# Altium integrated library AD Power Mgt Voltage Reference.IntLib: 225 symbols (part 3 of 5)
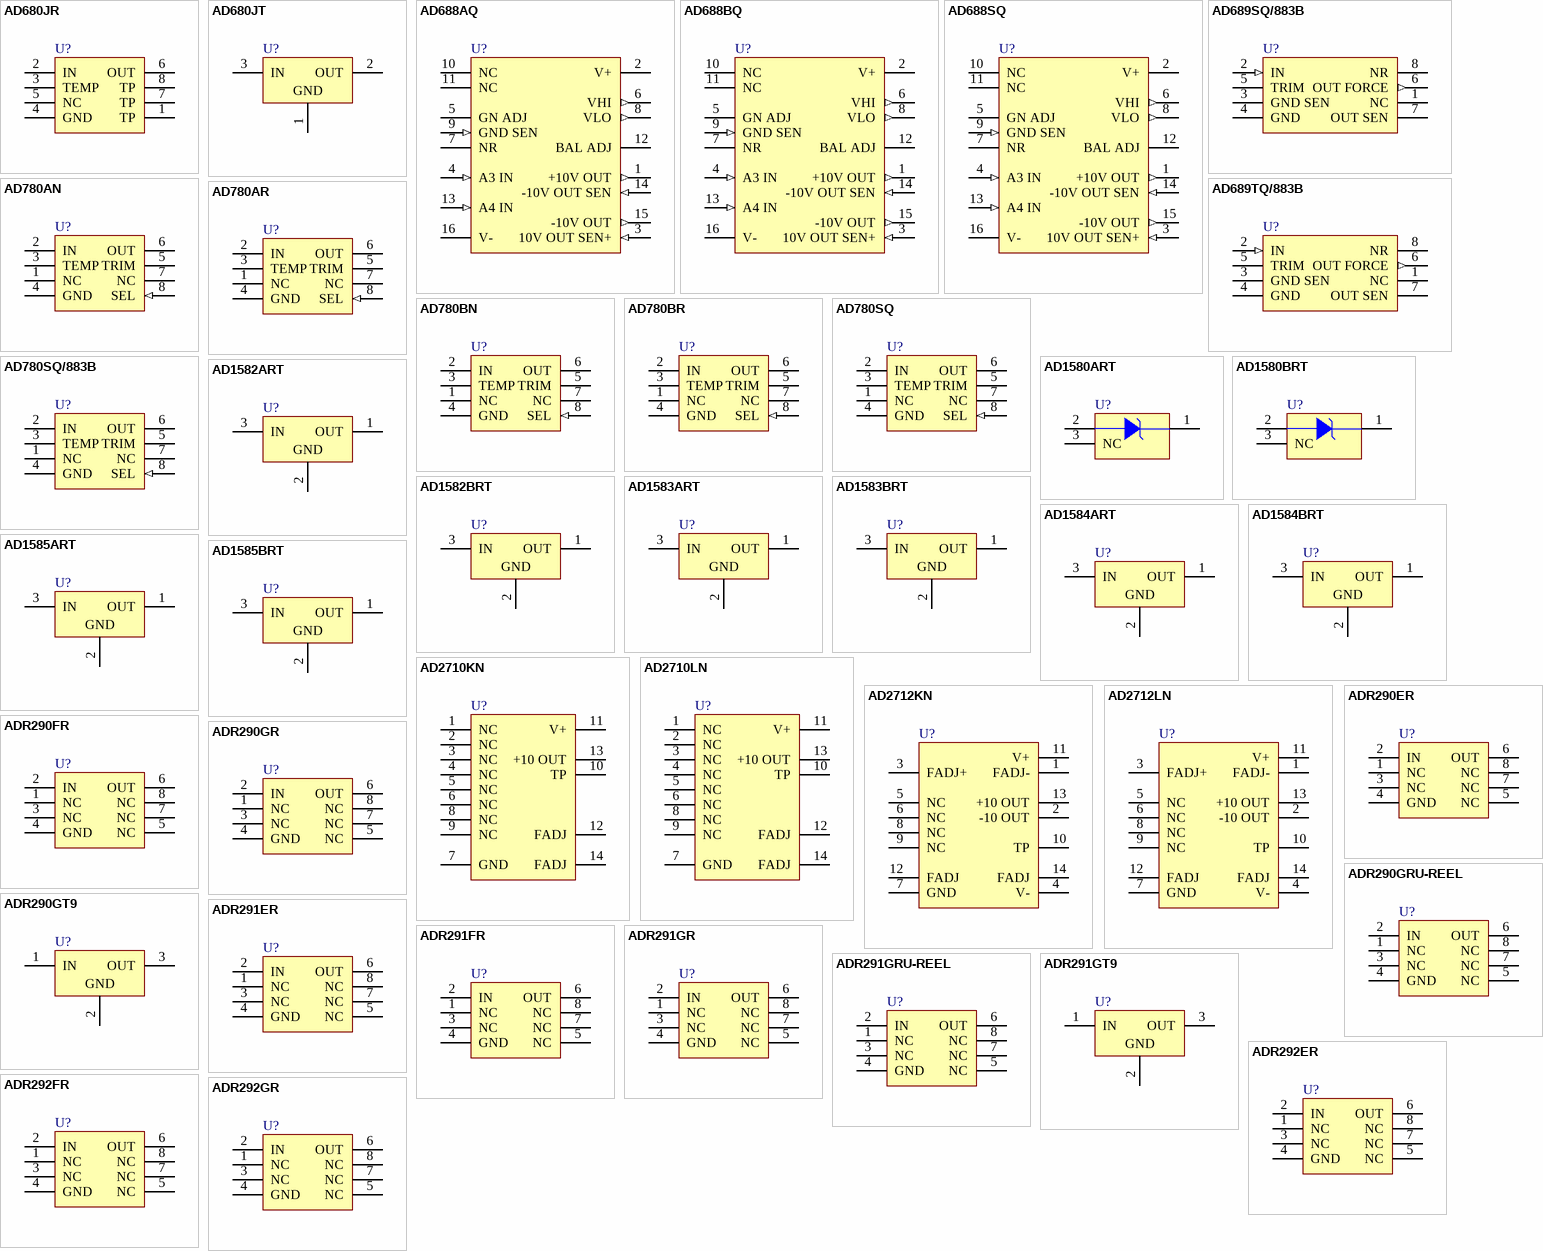
[diagram p7: symbols AD680JR to ADR292GR]

## ADR290FR
designator U?
Low-Noise Micropower Precision Voltage Reference; Note: Pins 1, 3, 5, 7 and 8 are not connected; Published: 8-Jun-2000; LatestRevisionDate: 13-Apr-2006; LatestRevisionNote: IPC-7351 Footprint Added.; DatasheetVersion: REV. 0 1997; PackageVersion: 2005; PackageReference: R-8; Publisher: Altium Limited; PackageDescription: 8-Pin Narrow Body Small Outline Integrated Circuit 1.27 mm Pitch; Code_JEDEC: MS-012-AA; Code_IPC: SOIC127P600-8; ComponentLink1Description: Manufacturer Link; ComponentLink1URL: http://www.analog.com/; ComponentLink2Description: Datasheet; ComponentLink2URL: http://www.analog.com/UploadedFiles/Obsolete_Data_Sheets/687927814ADR290.pdf
footprint R-8_N (SOIC, 8-Leads, Body 4.9x3.9mm, Pitch 1.27mm, IPC Medium Density)
footprint R-8_L (SOIC, 8-Leads, Body 4.9x3.9mm, Pitch 1.27mm, IPC High Density)
footprint R-8_M (SOIC, 8-Leads, Body 4.9x3.9mm, Pitch 1.27mm, IPC Low Density)
3D model SO-8 (8-Pin Narrow Body Small Outline Integrated Circuit 1.27 mm Pitch)
pins: 1 NC, 2 IN (power), 3 NC, 4 GND (power), 5 NC, 6 OUT (power), 7 NC, 8 NC

## ADR290GR
designator U?
Low-Noise Micropower Precision Voltage Reference; Note: Pins 1, 3, 5, 7 and 8 are not connected; Published: 8-Jun-2000; LatestRevisionDate: 13-Apr-2006; LatestRevisionNote: IPC-7351 Footprint Added.; DatasheetVersion: REV. 0 1997; PackageVersion: 2005; PackageReference: R-8; Publisher: Altium Limited; PackageDescription: 8-Pin Narrow Body Small Outline Integrated Circuit 1.27 mm Pitch; Code_JEDEC: MS-012-AA; Code_IPC: SOIC127P600-8; ComponentLink1Description: Manufacturer Link; ComponentLink1URL: http://www.analog.com/; ComponentLink2Description: Datasheet; ComponentLink2URL: http://www.analog.com/UploadedFiles/Obsolete_Data_Sheets/687927814ADR290.pdf
footprint R-8_N (SOIC, 8-Leads, Body 4.9x3.9mm, Pitch 1.27mm, IPC Medium Density)
footprint R-8_L (SOIC, 8-Leads, Body 4.9x3.9mm, Pitch 1.27mm, IPC High Density)
footprint R-8_M (SOIC, 8-Leads, Body 4.9x3.9mm, Pitch 1.27mm, IPC Low Density)
3D model SO-8 (8-Pin Narrow Body Small Outline Integrated Circuit 1.27 mm Pitch)
pins: 1 NC, 2 IN (power), 3 NC, 4 GND (power), 5 NC, 6 OUT (power), 7 NC, 8 NC

## ADR290GRU-REEL
designator U?
Low-Noise Micropower Precision Voltage Reference; Note: Pins 1, 3, 5, 7 and 8 are not connected; Published: 8-Jun-2000; LatestRevisionDate: 29-May-2009; LatestRevisionNote: IPC-7351 Footprint Added.; DatasheetVersion: REV. 0 1997; PackageVersion: 1997; PackageReference: RU-8; Publisher: Altium Limited; PackageDescription: 8-Pin Thin Small Outline Package 0.65 mm Pitch; ComponentLink1Description: Manufacturer Link; ComponentLink1URL: http://www.analog.com/; ComponentLink2Description: Datasheet; ComponentLink2URL: http://www.analog.com/UploadedFiles/Obsolete_Data_Sheets/687927814ADR290.pdf
footprint RU-8_N (TSOP, 8-Leads, Body 3x4.4mm, Pitch 0.65mm, IPC Medium Density)
footprint RU-8_L (TSOP, 8-Leads, Body 3x4.4mm, Pitch 0.65mm, IPC High Density)
footprint RU-8_M (TSOP, 8-Leads, Body 3x4.4mm, Pitch 0.65mm, IPC Low Density)
3D model RU-8 (8-Pin Thin Small Outline Package 0.65 mm Pitch)
pins: 1 NC, 2 IN (power), 3 NC, 4 GND (power), 5 NC, 6 OUT (power), 7 NC, 8 NC

## ADR290GT9
designator U?
Low-Noise Micropower Precision Voltage Reference; Published: 8-Jun-2000; LatestRevisionDate: 17-Jul-2002; LatestRevisionNote: Re-released for DXP Platform.; DatasheetVersion: REV. 0 1997; PackageVersion: revC; PackageReference: TO-92; Publisher: Altium Limited; PackageDescription: TO, Flat Index; 3 In-Line, Axial Leads; Body Dia. 5.1mm; Leads 0.48 x 0.48 mm (max); ComponentLink1Description: Manufacturer Link; ComponentLink1URL: http://www.analog.com/; ComponentLink2Description: Datasheet; ComponentLink2URL: http://www.analog.com/UploadedFiles/Obsolete_Data_Sheets/687927814ADR290.pdf
footprint TO-92 (TO, Flat Index; 3 In-Line, Axial Leads; Body Dia. 5.1mm; Leads 0.48 x 0.48 mm (max))
pins: 1 IN (power), 2 GND (power), 3 OUT (power)

## ADR291ER
designator U?
Low-Noise Micropower 2.5V Precision Voltage Reference; Note: Pins 1, 3, 5, 7 and 8 are not connected; Published: 8-Jun-2000; LatestRevisionDate: 13-Apr-2006; LatestRevisionNote: IPC-7351 Footprint Added.; DatasheetVersion: REV. 0 1997; PackageVersion: 2005; PackageReference: R-8; Publisher: Altium Limited; PackageDescription: 8-Pin Narrow Body Small Outline Integrated Circuit 1.27 mm Pitch; Code_JEDEC: MS-012-AA; Code_IPC: SOIC127P600-8; ComponentLink1Description: Manufacturer Link; ComponentLink1URL: http://www.analog.com/; ComponentLink2Description: Datasheet; ComponentLink2URL: http://www.analog.com/UploadedFiles/Obsolete_Data_Sheets/687927814ADR290.pdf
footprint R-8_N (SOIC, 8-Leads, Body 4.9x3.9mm, Pitch 1.27mm, IPC Medium Density)
footprint R-8_L (SOIC, 8-Leads, Body 4.9x3.9mm, Pitch 1.27mm, IPC High Density)
footprint R-8_M (SOIC, 8-Leads, Body 4.9x3.9mm, Pitch 1.27mm, IPC Low Density)
3D model SO-8 (8-Pin Narrow Body Small Outline Integrated Circuit 1.27 mm Pitch)
pins: 1 NC, 2 IN (power), 3 NC, 4 GND (power), 5 NC, 6 OUT (power), 7 NC, 8 NC

## ADR291FR
designator U?
Low-Noise Micropower 2.5V Precision Voltage Reference; Note: Pins 1, 3, 5, 7 and 8 are not connected; Published: 8-Jun-2000; LatestRevisionDate: 13-Apr-2006; LatestRevisionNote: IPC-7351 Footprint Added.; DatasheetVersion: REV. 0 1997; PackageVersion: 2005; PackageReference: R-8; Publisher: Altium Limited; PackageDescription: 8-Pin Narrow Body Small Outline Integrated Circuit 1.27 mm Pitch; Code_JEDEC: MS-012-AA; Code_IPC: SOIC127P600-8; ComponentLink1Description: Manufacturer Link; ComponentLink1URL: http://www.analog.com/; ComponentLink2Description: Datasheet; ComponentLink2URL: http://www.analog.com/UploadedFiles/Obsolete_Data_Sheets/687927814ADR290.pdf
footprint R-8_N (SOIC, 8-Leads, Body 4.9x3.9mm, Pitch 1.27mm, IPC Medium Density)
footprint R-8_L (SOIC, 8-Leads, Body 4.9x3.9mm, Pitch 1.27mm, IPC High Density)
footprint R-8_M (SOIC, 8-Leads, Body 4.9x3.9mm, Pitch 1.27mm, IPC Low Density)
3D model SO-8 (8-Pin Narrow Body Small Outline Integrated Circuit 1.27 mm Pitch)
pins: 1 NC, 2 IN (power), 3 NC, 4 GND (power), 5 NC, 6 OUT (power), 7 NC, 8 NC

## ADR291GR
designator U?
Low-Noise Micropower 2.5V Precision Voltage Reference; Note: Pins 1, 3, 5, 7 and 8 are not connected; Published: 8-Jun-2000; LatestRevisionDate: 13-Apr-2006; LatestRevisionNote: IPC-7351 Footprint Added.; DatasheetVersion: REV. 0 1997; PackageVersion: 2005; PackageReference: R-8; Publisher: Altium Limited; PackageDescription: 8-Pin Narrow Body Small Outline Integrated Circuit 1.27 mm Pitch; Code_JEDEC: MS-012-AA; Code_IPC: SOIC127P600-8; ComponentLink1Description: Manufacturer Link; ComponentLink1URL: http://www.analog.com/; ComponentLink2Description: Datasheet; ComponentLink2URL: http://www.analog.com/UploadedFiles/Obsolete_Data_Sheets/687927814ADR290.pdf
footprint R-8_N (SOIC, 8-Leads, Body 4.9x3.9mm, Pitch 1.27mm, IPC Medium Density)
footprint R-8_L (SOIC, 8-Leads, Body 4.9x3.9mm, Pitch 1.27mm, IPC High Density)
footprint R-8_M (SOIC, 8-Leads, Body 4.9x3.9mm, Pitch 1.27mm, IPC Low Density)
3D model SO-8 (8-Pin Narrow Body Small Outline Integrated Circuit 1.27 mm Pitch)
pins: 1 NC, 2 IN (power), 3 NC, 4 GND (power), 5 NC, 6 OUT (power), 7 NC, 8 NC

## ADR291GRU-REEL
designator U?
Low-Noise Micropower 2.5V Precision Voltage Reference; Note: Pins 1, 3, 5, 7 and 8 are not connected; Published: 8-Jun-2000; LatestRevisionDate: 29-May-2009; LatestRevisionNote: IPC-7351 Footprint Added.; DatasheetVersion: REV. 0 1997; PackageVersion: 1997; PackageReference: RU-8; Publisher: Altium Limited; PackageDescription: 8-Pin Thin Small Outline Package 0.65 mm Pitch; ComponentLink1Description: Manufacturer Link; ComponentLink1URL: http://www.analog.com/; ComponentLink2Description: Datasheet; ComponentLink2URL: http://www.analog.com/UploadedFiles/Obsolete_Data_Sheets/687927814ADR290.pdf
footprint RU-8_N (TSOP, 8-Leads, Body 3x4.4mm, Pitch 0.65mm, IPC Medium Density)
footprint RU-8_L (TSOP, 8-Leads, Body 3x4.4mm, Pitch 0.65mm, IPC High Density)
footprint RU-8_M (TSOP, 8-Leads, Body 3x4.4mm, Pitch 0.65mm, IPC Low Density)
3D model RU-8 (8-Pin Thin Small Outline Package 0.65 mm Pitch)
pins: 1 NC, 2 IN (power), 3 NC, 4 GND (power), 5 NC, 6 OUT (power), 7 NC, 8 NC

## ADR291GT9
designator U?
Low-Noise Micropower 2.5V Precision Voltage Reference; Published: 8-Jun-2000; LatestRevisionDate: 17-Jul-2002; LatestRevisionNote: Re-released for DXP Platform.; DatasheetVersion: REV. 0 1997; PackageVersion: revC; PackageReference: TO-92; Publisher: Altium Limited; PackageDescription: TO, Flat Index; 3 In-Line, Axial Leads; Body Dia. 5.1mm; Leads 0.48 x 0.48 mm (max); ComponentLink1Description: Manufacturer Link; ComponentLink1URL: http://www.analog.com/; ComponentLink2Description: Datasheet; ComponentLink2URL: http://www.analog.com/UploadedFiles/Obsolete_Data_Sheets/687927814ADR290.pdf
footprint TO-92 (TO, Flat Index; 3 In-Line, Axial Leads; Body Dia. 5.1mm; Leads 0.48 x 0.48 mm (max))
pins: 1 IN (power), 2 GND (power), 3 OUT (power)

## ADR292ER
designator U?
Low-Noise Micropower 4.096V Precision Voltage Reference; Note: Pins 1, 3, 5, 7 and 8 are not connected; Published: 8-Jun-2000; LatestRevisionDate: 13-Apr-2006; LatestRevisionNote: IPC-7351 Footprint Added.; DatasheetVersion: REV. 0 1997; PackageVersion: 2005; PackageReference: R-8; Publisher: Altium Limited; PackageDescription: 8-Pin Narrow Body Small Outline Integrated Circuit 1.27 mm Pitch; Code_JEDEC: MS-012-AA; Code_IPC: SOIC127P600-8; ComponentLink1Description: Manufacturer Link; ComponentLink1URL: http://www.analog.com/; ComponentLink2Description: Datasheet; ComponentLink2URL: http://www.analog.com/UploadedFiles/Obsolete_Data_Sheets/687927814ADR290.pdf
footprint R-8_N (SOIC, 8-Leads, Body 4.9x3.9mm, Pitch 1.27mm, IPC Medium Density)
footprint R-8_L (SOIC, 8-Leads, Body 4.9x3.9mm, Pitch 1.27mm, IPC High Density)
footprint R-8_M (SOIC, 8-Leads, Body 4.9x3.9mm, Pitch 1.27mm, IPC Low Density)
3D model SO-8 (8-Pin Narrow Body Small Outline Integrated Circuit 1.27 mm Pitch)
pins: 1 NC, 2 IN (power), 3 NC, 4 GND (power), 5 NC, 6 OUT (power), 7 NC, 8 NC

## ADR292FR
designator U?
Low-Noise Micropower 4.096V Precision Voltage Reference; Note: Pins 1, 3, 5, 7 and 8 are not connected; Published: 8-Jun-2000; LatestRevisionDate: 13-Apr-2006; LatestRevisionNote: IPC-7351 Footprint Added.; DatasheetVersion: REV. 0 1997; PackageVersion: 2005; PackageReference: R-8; Publisher: Altium Limited; PackageDescription: 8-Pin Narrow Body Small Outline Integrated Circuit 1.27 mm Pitch; Code_JEDEC: MS-012-AA; Code_IPC: SOIC127P600-8; ComponentLink1Description: Manufacturer Link; ComponentLink1URL: http://www.analog.com/; ComponentLink2Description: Datasheet; ComponentLink2URL: http://www.analog.com/UploadedFiles/Obsolete_Data_Sheets/687927814ADR290.pdf
footprint R-8_N (SOIC, 8-Leads, Body 4.9x3.9mm, Pitch 1.27mm, IPC Medium Density)
footprint R-8_L (SOIC, 8-Leads, Body 4.9x3.9mm, Pitch 1.27mm, IPC High Density)
footprint R-8_M (SOIC, 8-Leads, Body 4.9x3.9mm, Pitch 1.27mm, IPC Low Density)
3D model SO-8 (8-Pin Narrow Body Small Outline Integrated Circuit 1.27 mm Pitch)
pins: 1 NC, 2 IN (power), 3 NC, 4 GND (power), 5 NC, 6 OUT (power), 7 NC, 8 NC

## ADR292GR
designator U?
Low-Noise Micropower 4.096V Precision Voltage Reference; Note: Pins 1, 3, 5, 7 and 8 are not connected; Published: 8-Jun-2000; LatestRevisionDate: 13-Apr-2006; LatestRevisionNote: IPC-7351 Footprint Added.; DatasheetVersion: REV. 0 1997; PackageVersion: 2005; PackageReference: R-8; Publisher: Altium Limited; PackageDescription: 8-Pin Narrow Body Small Outline Integrated Circuit 1.27 mm Pitch; Code_JEDEC: MS-012-AA; Code_IPC: SOIC127P600-8; ComponentLink1Description: Manufacturer Link; ComponentLink1URL: http://www.analog.com/; ComponentLink2Description: Datasheet; ComponentLink2URL: http://www.analog.com/UploadedFiles/Obsolete_Data_Sheets/687927814ADR290.pdf
footprint R-8_N (SOIC, 8-Leads, Body 4.9x3.9mm, Pitch 1.27mm, IPC Medium Density)
footprint R-8_L (SOIC, 8-Leads, Body 4.9x3.9mm, Pitch 1.27mm, IPC High Density)
footprint R-8_M (SOIC, 8-Leads, Body 4.9x3.9mm, Pitch 1.27mm, IPC Low Density)
3D model SO-8 (8-Pin Narrow Body Small Outline Integrated Circuit 1.27 mm Pitch)
pins: 1 NC, 2 IN (power), 3 NC, 4 GND (power), 5 NC, 6 OUT (power), 7 NC, 8 NC

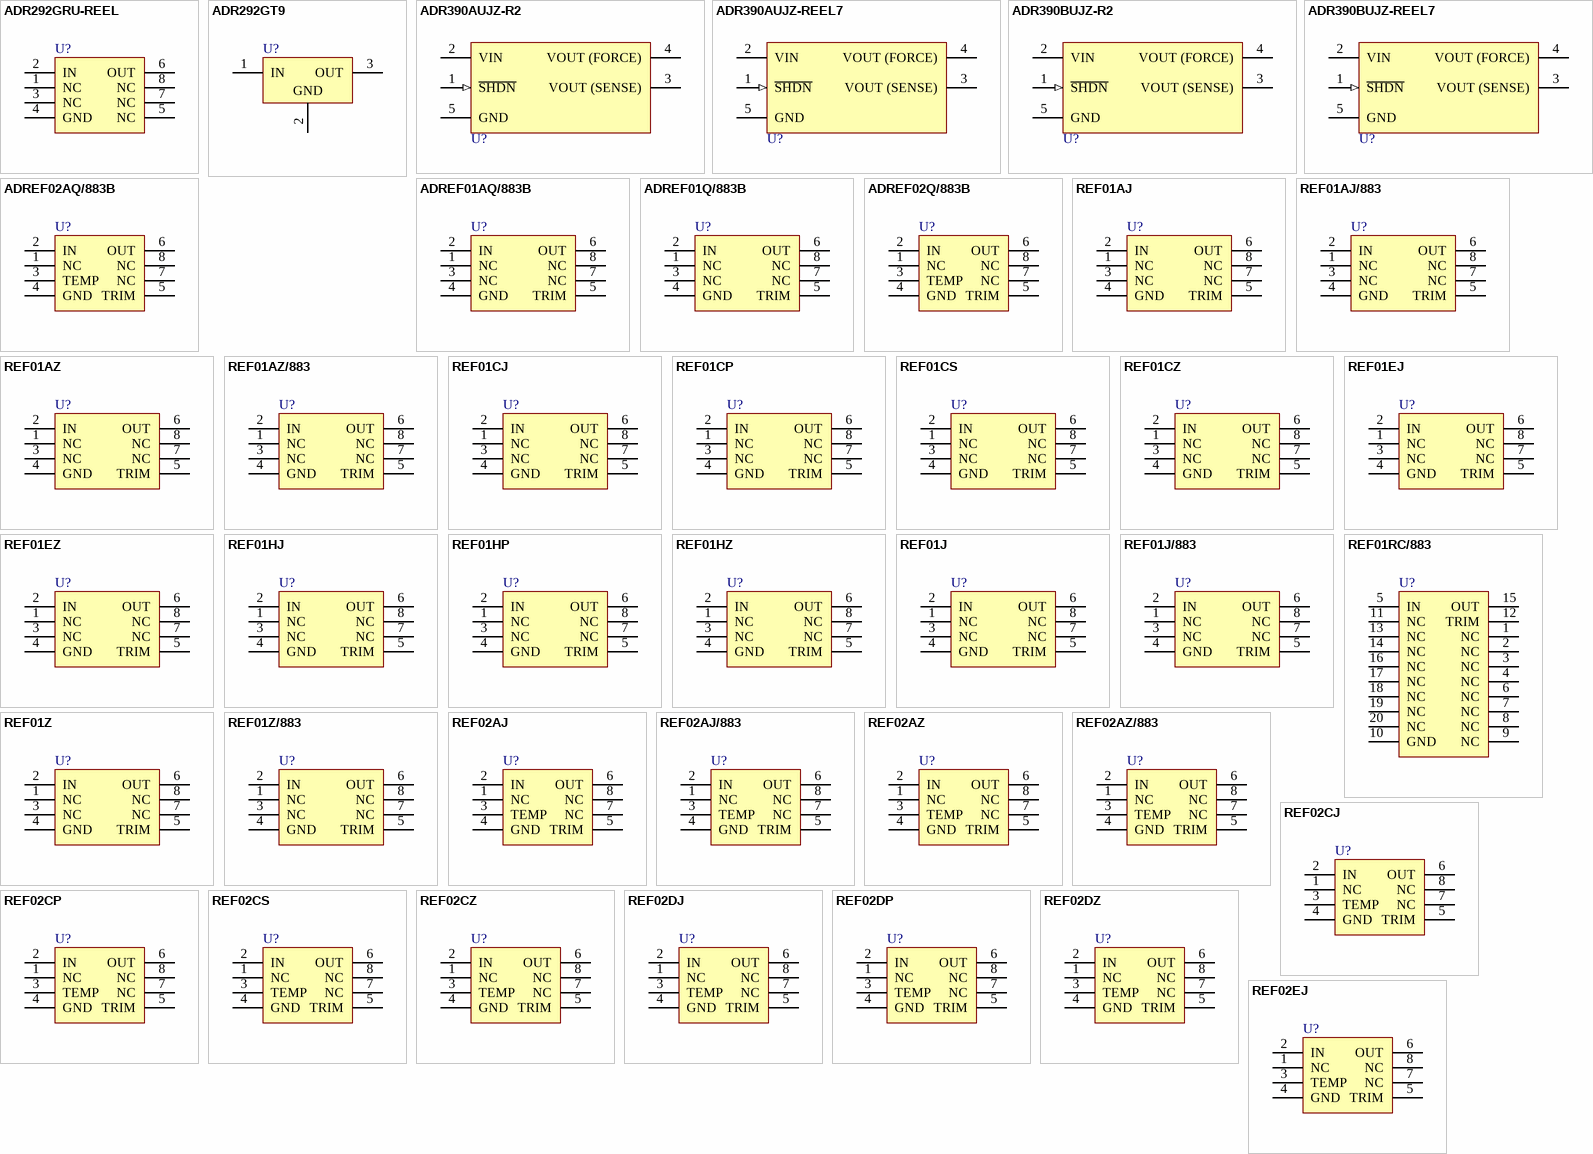
[diagram p3: symbols ADR292GRU-REEL to REF02EJ]

## ADR292GRU-REEL
designator U?
Low-Noise Micropower 4.096V Precision Voltage Reference; Note: Pins 1, 3, 5, 7 and 8 are not connected; Published: 8-Jun-2000; LatestRevisionDate: 29-May-2009; LatestRevisionNote: IPC-7351 Footprint Added.; DatasheetVersion: REV. 0 1997; PackageVersion: 1997; PackageReference: RU-8; Publisher: Altium Limited; PackageDescription: 8-Pin Thin Small Outline Package 0.65 mm Pitch; ComponentLink1Description: Manufacturer Link; ComponentLink1URL: http://www.analog.com/; ComponentLink2Description: Datasheet; ComponentLink2URL: http://www.analog.com/UploadedFiles/Obsolete_Data_Sheets/687927814ADR290.pdf
footprint RU-8_N (TSOP, 8-Leads, Body 3x4.4mm, Pitch 0.65mm, IPC Medium Density)
footprint RU-8_L (TSOP, 8-Leads, Body 3x4.4mm, Pitch 0.65mm, IPC High Density)
footprint RU-8_M (TSOP, 8-Leads, Body 3x4.4mm, Pitch 0.65mm, IPC Low Density)
3D model RU-8 (8-Pin Thin Small Outline Package 0.65 mm Pitch)
pins: 1 NC, 2 IN (power), 3 NC, 4 GND (power), 5 NC, 6 OUT (power), 7 NC, 8 NC

## ADR292GT9
designator U?
Low-Noise Micropower 4.096V Precision Voltage Reference; Published: 8-Jun-2000; LatestRevisionDate: 17-Jul-2002; LatestRevisionNote: Re-released for DXP Platform.; DatasheetVersion: REV. 0 1997; PackageVersion: revC; PackageReference: TO-92; Publisher: Altium Limited; PackageDescription: TO, Flat Index; 3 In-Line, Axial Leads; Body Dia. 5.1mm; Leads 0.48 x 0.48 mm (max); ComponentLink1Description: Manufacturer Link; ComponentLink1URL: http://www.analog.com/; ComponentLink2Description: Datasheet; ComponentLink2URL: http://www.analog.com/UploadedFiles/Obsolete_Data_Sheets/687927814ADR290.pdf
footprint TO-92 (TO, Flat Index; 3 In-Line, Axial Leads; Body Dia. 5.1mm; Leads 0.48 x 0.48 mm (max))
pins: 1 IN (power), 2 GND (power), 3 OUT (power)

## ADR390AUJZ-R2
designator U?
2.048 V Micropower, Low Noise Precision Voltage Reference with Shutdown; Published: 30-May-2008; DatasheetVersion: revG, Mar-2008; PackageVersion: 2005; PackageReference: UJ-5; Publisher: Altium Limited; PackageDescription: 5-Pin SOT-23 Package 0.95 mm Pitch, 2.8 mm Lead Span; Code_JEDEC: MO-193AB; ComponentLink1Description: Manufacturer Link; ComponentLink1URL: http://www.analog.com/; ComponentLink2Description: Datasheet; ComponentLink2URL: http://www.analog.com/UploadedFiles/Data_Sheets/ADR390_391_392_395.pdf
footprint UJ-5_N (SOT23, 5-Leads, Body 2.9x1.7mm, Pitch 0.95mm, Lead Span 2.8mm, IPC Medium Density)
footprint UJ-5_L (SOT23, 5-Leads, Body 2.9x1.7mm, Pitch 0.95mm, Lead Span 2.8mm, IPC High Density)
footprint UJ-5_M (SOT23, 5-Leads, Body 2.9x1.7mm, Pitch 0.95mm, Lead Span 2.8mm, IPC Low Density)
pins: 1 ~{SHDN} (in), 2 VIN (power), 3 VOUT (SENSE) (power), 4 VOUT (FORCE) (power), 5 GND (power)

## ADR390AUJZ-REEL7
designator U?
2.048 V Micropower, Low Noise Precision Voltage Reference with Shutdown; Published: 30-May-2008; DatasheetVersion: revG, Mar-2008; PackageVersion: 2005; PackageReference: UJ-5; Publisher: Altium Limited; PackageDescription: 5-Pin SOT-23 Package 0.95 mm Pitch, 2.8 mm Lead Span; Code_JEDEC: MO-193AB; ComponentLink1Description: Manufacturer Link; ComponentLink1URL: http://www.analog.com/; ComponentLink2Description: Datasheet; ComponentLink2URL: http://www.analog.com/UploadedFiles/Data_Sheets/ADR390_391_392_395.pdf
footprint UJ-5_N (SOT23, 5-Leads, Body 2.9x1.7mm, Pitch 0.95mm, Lead Span 2.8mm, IPC Medium Density)
footprint UJ-5_L (SOT23, 5-Leads, Body 2.9x1.7mm, Pitch 0.95mm, Lead Span 2.8mm, IPC High Density)
footprint UJ-5_M (SOT23, 5-Leads, Body 2.9x1.7mm, Pitch 0.95mm, Lead Span 2.8mm, IPC Low Density)
pins: 1 ~{SHDN} (in), 2 VIN (power), 3 VOUT (SENSE) (power), 4 VOUT (FORCE) (power), 5 GND (power)

## ADR390BUJZ-R2
designator U?
2.048 V Micropower, Low Noise Precision Voltage Reference with Shutdown; Published: 30-May-2008; DatasheetVersion: revG, Mar-2008; PackageVersion: 2005; PackageReference: UJ-5; Publisher: Altium Limited; PackageDescription: 5-Pin SOT-23 Package 0.95 mm Pitch, 2.8 mm Lead Span; Code_JEDEC: MO-193AB; ComponentLink1Description: Manufacturer Link; ComponentLink1URL: http://www.analog.com/; ComponentLink2Description: Datasheet; ComponentLink2URL: http://www.analog.com/UploadedFiles/Data_Sheets/ADR390_391_392_395.pdf
footprint UJ-5_N (SOT23, 5-Leads, Body 2.9x1.7mm, Pitch 0.95mm, Lead Span 2.8mm, IPC Medium Density)
footprint UJ-5_L (SOT23, 5-Leads, Body 2.9x1.7mm, Pitch 0.95mm, Lead Span 2.8mm, IPC High Density)
footprint UJ-5_M (SOT23, 5-Leads, Body 2.9x1.7mm, Pitch 0.95mm, Lead Span 2.8mm, IPC Low Density)
pins: 1 ~{SHDN} (in), 2 VIN (power), 3 VOUT (SENSE) (power), 4 VOUT (FORCE) (power), 5 GND (power)

## ADR390BUJZ-REEL7
designator U?
2.048 V Micropower, Low Noise Precision Voltage Reference with Shutdown; Published: 30-May-2008; DatasheetVersion: revG, Mar-2008; PackageVersion: 2005; PackageReference: UJ-5; Publisher: Altium Limited; PackageDescription: 5-Pin SOT-23 Package 0.95 mm Pitch, 2.8 mm Lead Span; Code_JEDEC: MO-193AB; ComponentLink1Description: Manufacturer Link; ComponentLink1URL: http://www.analog.com/; ComponentLink2Description: Datasheet; ComponentLink2URL: http://www.analog.com/UploadedFiles/Data_Sheets/ADR390_391_392_395.pdf
footprint UJ-5_N (SOT23, 5-Leads, Body 2.9x1.7mm, Pitch 0.95mm, Lead Span 2.8mm, IPC Medium Density)
footprint UJ-5_L (SOT23, 5-Leads, Body 2.9x1.7mm, Pitch 0.95mm, Lead Span 2.8mm, IPC High Density)
footprint UJ-5_M (SOT23, 5-Leads, Body 2.9x1.7mm, Pitch 0.95mm, Lead Span 2.8mm, IPC Low Density)
pins: 1 ~{SHDN} (in), 2 VIN (power), 3 VOUT (SENSE) (power), 4 VOUT (FORCE) (power), 5 GND (power)

## ADREF01AQ/883B
designator U?
10 Volt IC Reference; Note: Pins 1, 3, 7 and 8 are not connected; Pin 4 is connected to case; Published: 8-Jun-2000; LatestRevisionDate: 29-May-2009; LatestRevisionNote: Component Body Added.; DatasheetVersion: REV. B 1990; PackageVersion: 1998; PackageReference: Q-8; Publisher: Altium Limited; PackageDescription: DIP, 8-Pin, Row Spacing 7.62 mm, Pitch 2.54 mm; ComponentLink1Description: Manufacturer Link; ComponentLink1URL: http://www.analog.com/
footprint Q-8 (DIP, 8-Leads, Row Spacing 7.62mm, Pitch 2.54mm, Body 9.91x6.73mm)
3D model Q-8 (DIP, 8-Pin, Row Spacing 7.62 mm, Pitch 2.54 mm)
simulation model REF01A (SUBCKT)
pins: 1 NC, 2 IN (power), 3 NC, 4 GND (power), 5 TRIM, 6 OUT (power), 7 NC, 8 NC

## ADREF01Q/883B
designator U?
10 Volt IC Reference; Note: Pins 1, 3, 7 and 8 are not connected; Pin 4 is connected to case; Published: 8-Jun-2000; LatestRevisionDate: 29-May-2009; LatestRevisionNote: Component Body Added.; DatasheetVersion: REV. B 1990; PackageVersion: 1998; PackageReference: Q-8; Publisher: Altium Limited; PackageDescription: DIP, 8-Pin, Row Spacing 7.62 mm, Pitch 2.54 mm; ComponentLink1Description: Manufacturer Link; ComponentLink1URL: http://www.analog.com/
footprint Q-8 (DIP, 8-Leads, Row Spacing 7.62mm, Pitch 2.54mm, Body 9.91x6.73mm)
3D model Q-8 (DIP, 8-Pin, Row Spacing 7.62 mm, Pitch 2.54 mm)
simulation model REF01 (SUBCKT)
pins: 1 NC, 2 IN (power), 3 NC, 4 GND (power), 5 TRIM, 6 OUT (power), 7 NC, 8 NC

## ADREF02AQ/883B
designator U?
5 Volt IC Reference; Note: Pins 1, 7 and 8 are not connected; Pin 4 is connected to case; Published: 8-Jun-2000; LatestRevisionDate: 29-May-2009; LatestRevisionNote: Component Body Added.; DatasheetVersion: REV. B 1990; PackageVersion: 1998; PackageReference: Q-8; Publisher: Altium Limited; PackageDescription: DIP, 8-Pin, Row Spacing 7.62 mm, Pitch 2.54 mm; ComponentLink1Description: Manufacturer Link; ComponentLink1URL: http://www.analog.com/
footprint Q-8 (DIP, 8-Leads, Row Spacing 7.62mm, Pitch 2.54mm, Body 9.91x6.73mm)
3D model Q-8 (DIP, 8-Pin, Row Spacing 7.62 mm, Pitch 2.54 mm)
simulation model REF02A (SUBCKT)
pins: 1 NC, 2 IN (power), 3 TEMP, 4 GND (power), 5 TRIM, 6 OUT (power), 7 NC, 8 NC

## ADREF02Q/883B
designator U?
5 Volt IC Reference; Note: Pins 1, 7 and 8 are not connected; Pin 4 is connected to case; Published: 8-Jun-2000; LatestRevisionDate: 29-May-2009; LatestRevisionNote: Component Body Added.; DatasheetVersion: REV. B 1990; PackageVersion: 1998; PackageReference: Q-8; Publisher: Altium Limited; PackageDescription: DIP, 8-Pin, Row Spacing 7.62 mm, Pitch 2.54 mm; ComponentLink1Description: Manufacturer Link; ComponentLink1URL: http://www.analog.com/
footprint Q-8 (DIP, 8-Leads, Row Spacing 7.62mm, Pitch 2.54mm, Body 9.91x6.73mm)
3D model Q-8 (DIP, 8-Pin, Row Spacing 7.62 mm, Pitch 2.54 mm)
simulation model REF02 (SUBCKT)
pins: 1 NC, 2 IN (power), 3 TEMP, 4 GND (power), 5 TRIM, 6 OUT (power), 7 NC, 8 NC

## REF01AJ
designator U?
+10V Precision Voltage Reference; Note: Pins 1, 3, 7 and 8 are not connected; Pin 4 is connected to case; Published: 8-Jun-2000; LatestRevisionDate: 17-Jul-2002; LatestRevisionNote: Re-released for DXP Platform.; DatasheetVersion: REV. B 1992; PackageVersion: 1990; PackageReference: H-08A; Publisher: Altium Limited; PackageDescription: Can; 8 Leads; Pin Circle Dia. 5.08 mm; Lead Dia. 0.53 mm (max); ComponentLink1Description: Manufacturer Link; ComponentLink1URL: http://www.analog.com/en/prod/0%2C2877%2CREF01%2C00.html; ComponentLink2Description: Datasheet; ComponentLink2URL: http://www.analog.com/UploadedFiles/Data_Sheets/400769540REF01_g.pdf
footprint H-08A (Can; 8 Leads; Pin Circle Dia. 5.08 mm; Lead Dia. 0.53 mm (max))
simulation model REF01A (SUBCKT)
pins: 1 NC, 2 IN (power), 3 NC, 4 GND (power), 5 TRIM, 6 OUT (power), 7 NC, 8 NC

## REF01AJ/883
designator U?
+10V Precision Voltage Reference; Note: Pins 1, 3, 7 and 8 are not connected; Pin 4 is connected to case; Published: 8-Jun-2000; LatestRevisionDate: 17-Jul-2002; LatestRevisionNote: Re-released for DXP Platform.; DatasheetVersion: REV. B 1992; PackageVersion: 1990; PackageReference: H-08A; Publisher: Altium Limited; PackageDescription: Can; 8 Leads; Pin Circle Dia. 5.08 mm; Lead Dia. 0.53 mm (max); ComponentLink1Description: Manufacturer Link; ComponentLink1URL: http://www.analog.com/en/prod/0%2C2877%2CREF01%2C00.html; ComponentLink2Description: Datasheet; ComponentLink2URL: http://www.analog.com/UploadedFiles/Data_Sheets/400769540REF01_g.pdf
footprint H-08A (Can; 8 Leads; Pin Circle Dia. 5.08 mm; Lead Dia. 0.53 mm (max))
simulation model REF01A (SUBCKT)
pins: 1 NC, 2 IN (power), 3 NC, 4 GND (power), 5 TRIM, 6 OUT (power), 7 NC, 8 NC

## REF01AZ
designator U?
+10V Precision Voltage Reference; Note: Pins 1, 3, 7 and 8 are not connected; Pin 4 is connected to case; Published: 8-Jun-2000; LatestRevisionDate: 29-May-2009; LatestRevisionNote: Component Body Added.; DatasheetVersion: REV. B 1992; PackageVersion: 1998; PackageReference: Q-8; Publisher: Altium Limited; PackageDescription: DIP, 8-Pin, Row Spacing 7.62 mm, Pitch 2.54 mm; ComponentLink1Description: Manufacturer Link; ComponentLink1URL: http://www.analog.com/en/prod/0%2C2877%2CREF01%2C00.html; ComponentLink2Description: Datasheet; ComponentLink2URL: http://www.analog.com/UploadedFiles/Data_Sheets/400769540REF01_g.pdf
footprint Q-8 (DIP, 8-Leads, Row Spacing 7.62mm, Pitch 2.54mm, Body 9.91x6.73mm)
3D model Q-8 (DIP, 8-Pin, Row Spacing 7.62 mm, Pitch 2.54 mm)
simulation model REF01A (SUBCKT)
pins: 1 NC, 2 IN (power), 3 NC, 4 GND (power), 5 TRIM, 6 OUT (power), 7 NC, 8 NC

## REF01AZ/883
designator U?
+10V Precision Voltage Reference; Note: Pins 1, 3, 7 and 8 are not connected; Pin 4 is connected to case; Published: 8-Jun-2000; LatestRevisionDate: 29-May-2009; LatestRevisionNote: Component Body Added.; DatasheetVersion: REV. B 1992; PackageVersion: 1998; PackageReference: Q-8; Publisher: Altium Limited; PackageDescription: DIP, 8-Pin, Row Spacing 7.62 mm, Pitch 2.54 mm; ComponentLink1Description: Manufacturer Link; ComponentLink1URL: http://www.analog.com/en/prod/0%2C2877%2CREF01%2C00.html; ComponentLink2Description: Datasheet; ComponentLink2URL: http://www.analog.com/UploadedFiles/Data_Sheets/400769540REF01_g.pdf
footprint Q-8 (DIP, 8-Leads, Row Spacing 7.62mm, Pitch 2.54mm, Body 9.91x6.73mm)
3D model Q-8 (DIP, 8-Pin, Row Spacing 7.62 mm, Pitch 2.54 mm)
simulation model REF01A (SUBCKT)
pins: 1 NC, 2 IN (power), 3 NC, 4 GND (power), 5 TRIM, 6 OUT (power), 7 NC, 8 NC

## REF01CJ
designator U?
+10V Precision Voltage Reference; Note: Pins 1, 3, 7 and 8 are not connected; Pin 4 is connected to case; Published: 8-Jun-2000; LatestRevisionDate: 17-Jul-2002; LatestRevisionNote: Re-released for DXP Platform.; DatasheetVersion: REV. B 1992; PackageVersion: 1990; PackageReference: H-08A; Publisher: Altium Limited; PackageDescription: Can; 8 Leads; Pin Circle Dia. 5.08 mm; Lead Dia. 0.53 mm (max); ComponentLink1Description: Manufacturer Link; ComponentLink1URL: http://www.analog.com/en/prod/0%2C2877%2CREF01%2C00.html; ComponentLink2Description: Datasheet; ComponentLink2URL: http://www.analog.com/UploadedFiles/Data_Sheets/400769540REF01_g.pdf
footprint H-08A (Can; 8 Leads; Pin Circle Dia. 5.08 mm; Lead Dia. 0.53 mm (max))
simulation model REF01C (SUBCKT)
pins: 1 NC, 2 IN (power), 3 NC, 4 GND (power), 5 TRIM, 6 OUT (power), 7 NC, 8 NC

## REF01CP
designator U?
+10V Precision Voltage Reference; Note: Pins 1, 3, 7 and 8 are not connected; Pin 4 is connected to case; Published: 8-Jun-2000; LatestRevisionDate: 29-May-2009; LatestRevisionNote: Component Body Added.; DatasheetVersion: REV. B 1992; PackageReference: N-8_A; Publisher: Altium Limited; PackageDescription: DIP, 8-Pin, Row Spacing 7.62 mm, Pitch 2.54 mm; Code_JEDEC: MO-001-AN; ComponentLink1Description: Manufacturer Link; ComponentLink1URL: http://www.analog.com/en/prod/0%2C2877%2CREF01%2C00.html; ComponentLink2Description: Datasheet; ComponentLink2URL: http://www.analog.com/UploadedFiles/Data_Sheets/400769540REF01_g.pdf
footprint N-8_A (DIP, 8-Leads, Row Spacing 7.62mm, Pitch 2.54mm, Body 9.88x6.61mm)
3D model N-8A (DIP, 8-Pin, Row Spacing 7.62 mm, Pitch 2.54 mm)
simulation model REF01C (SUBCKT)
pins: 1 NC, 2 IN (power), 3 NC, 4 GND (power), 5 TRIM, 6 OUT (power), 7 NC, 8 NC

## REF01CS
designator U?
+10V Precision Voltage Reference; Note: Pins 1, 3, 7 and 8 are not connected; Pin 4 is connected to case; Published: 8-Jun-2000; LatestRevisionDate: 13-Apr-2006; LatestRevisionNote: IPC-7351 Footprint Added.; DatasheetVersion: REV. B 1992; PackageVersion: revA; PackageReference: SO-8; Publisher: Altium Limited; PackageDescription: 8-Pin Small Outline Integrated Circuit 1.27 mm Pitch; Code_JEDEC: MS-012-AA; Code_IPC: SOIC127P600-8; ComponentLink1Description: Manufacturer Link; ComponentLink1URL: http://www.analog.com/en/prod/0%2C2877%2CREF01%2C00.html; ComponentLink2Description: Datasheet; ComponentLink2URL: http://www.analog.com/UploadedFiles/Data_Sheets/400769540REF01_g.pdf
footprint SO-8_N (SOIC, 8-Leads, Body 4.9x3.9mm, Pitch 1.27mm, IPC Medium Density)
footprint SO-8_L (SOIC, 8-Leads, Body 4.9x3.9mm, Pitch 1.27mm, IPC High Density)
footprint SO-8_M (SOIC, 8-Leads, Body 4.9x3.9mm, Pitch 1.27mm, IPC Low Density)
3D model SO-8 (8-Pin Small Outline Integrated Circuit 1.27 mm Pitch)
simulation model REF01C (SUBCKT)
pins: 1 NC, 2 IN (power), 3 NC, 4 GND (power), 5 TRIM, 6 OUT (power), 7 NC, 8 NC

## REF01CZ
designator U?
+10V Precision Voltage Reference; Note: Pins 1, 3, 7 and 8 are not connected; Pin 4 is connected to case; Published: 8-Jun-2000; LatestRevisionDate: 29-May-2009; LatestRevisionNote: Component Body Added.; DatasheetVersion: REV. B 1992; PackageVersion: 1998; PackageReference: Q-8; Publisher: Altium Limited; PackageDescription: DIP, 8-Pin, Row Spacing 7.62 mm, Pitch 2.54 mm; ComponentLink1Description: Manufacturer Link; ComponentLink1URL: http://www.analog.com/en/prod/0%2C2877%2CREF01%2C00.html; ComponentLink2Description: Datasheet; ComponentLink2URL: http://www.analog.com/UploadedFiles/Data_Sheets/400769540REF01_g.pdf
footprint Q-8 (DIP, 8-Leads, Row Spacing 7.62mm, Pitch 2.54mm, Body 9.91x6.73mm)
3D model Q-8 (DIP, 8-Pin, Row Spacing 7.62 mm, Pitch 2.54 mm)
simulation model REF01C (SUBCKT)
pins: 1 NC, 2 IN (power), 3 NC, 4 GND (power), 5 TRIM, 6 OUT (power), 7 NC, 8 NC

## REF01EJ
designator U?
+10V Precision Voltage Reference; Note: Pins 1, 3, 7 and 8 are not connected; Pin 4 is connected to case; Published: 8-Jun-2000; LatestRevisionDate: 17-Jul-2002; LatestRevisionNote: Re-released for DXP Platform.; DatasheetVersion: REV. B 1992; PackageVersion: 1990; PackageReference: H-08A; Publisher: Altium Limited; PackageDescription: Can; 8 Leads; Pin Circle Dia. 5.08 mm; Lead Dia. 0.53 mm (max); ComponentLink1Description: Manufacturer Link; ComponentLink1URL: http://www.analog.com/en/prod/0%2C2877%2CREF01%2C00.html; ComponentLink2Description: Datasheet; ComponentLink2URL: http://www.analog.com/UploadedFiles/Data_Sheets/400769540REF01_g.pdf
footprint H-08A (Can; 8 Leads; Pin Circle Dia. 5.08 mm; Lead Dia. 0.53 mm (max))
simulation model REF01E (SUBCKT)
pins: 1 NC, 2 IN (power), 3 NC, 4 GND (power), 5 TRIM, 6 OUT (power), 7 NC, 8 NC

## REF01EZ
designator U?
+10V Precision Voltage Reference; Note: Pins 1, 3, 7 and 8 are not connected; Pin 4 is connected to case; Published: 8-Jun-2000; LatestRevisionDate: 29-May-2009; LatestRevisionNote: Component Body Added.; DatasheetVersion: REV. B 1992; PackageVersion: 1998; PackageReference: Q-8; Publisher: Altium Limited; PackageDescription: DIP, 8-Pin, Row Spacing 7.62 mm, Pitch 2.54 mm; ComponentLink1Description: Manufacturer Link; ComponentLink1URL: http://www.analog.com/en/prod/0%2C2877%2CREF01%2C00.html; ComponentLink2Description: Datasheet; ComponentLink2URL: http://www.analog.com/UploadedFiles/Data_Sheets/400769540REF01_g.pdf
footprint Q-8 (DIP, 8-Leads, Row Spacing 7.62mm, Pitch 2.54mm, Body 9.91x6.73mm)
3D model Q-8 (DIP, 8-Pin, Row Spacing 7.62 mm, Pitch 2.54 mm)
simulation model REF01E (SUBCKT)
pins: 1 NC, 2 IN (power), 3 NC, 4 GND (power), 5 TRIM, 6 OUT (power), 7 NC, 8 NC

## REF01HJ
designator U?
+10V Precision Voltage Reference; Note: Pins 1, 3, 7 and 8 are not connected; Pin 4 is connected to case; Published: 8-Jun-2000; LatestRevisionDate: 17-Jul-2002; LatestRevisionNote: Re-released for DXP Platform.; DatasheetVersion: REV. B 1992; PackageVersion: 1990; PackageReference: H-08A; Publisher: Altium Limited; PackageDescription: Can; 8 Leads; Pin Circle Dia. 5.08 mm; Lead Dia. 0.53 mm (max); ComponentLink1Description: Manufacturer Link; ComponentLink1URL: http://www.analog.com/en/prod/0%2C2877%2CREF01%2C00.html; ComponentLink2Description: Datasheet; ComponentLink2URL: http://www.analog.com/UploadedFiles/Data_Sheets/400769540REF01_g.pdf
footprint H-08A (Can; 8 Leads; Pin Circle Dia. 5.08 mm; Lead Dia. 0.53 mm (max))
simulation model REF01H (SUBCKT)
pins: 1 NC, 2 IN (power), 3 NC, 4 GND (power), 5 TRIM, 6 OUT (power), 7 NC, 8 NC

## REF01HP
designator U?
+10V Precision Voltage Reference; Note: Pins 1, 3, 7 and 8 are not connected; Pin 4 is connected to case; Published: 8-Jun-2000; LatestRevisionDate: 29-May-2009; LatestRevisionNote: Component Body Added.; DatasheetVersion: REV. B 1992; PackageReference: N-8_A; Publisher: Altium Limited; PackageDescription: DIP, 8-Pin, Row Spacing 7.62 mm, Pitch 2.54 mm; Code_JEDEC: MO-001-AN; ComponentLink1Description: Manufacturer Link; ComponentLink1URL: http://www.analog.com/en/prod/0%2C2877%2CREF01%2C00.html; ComponentLink2Description: Datasheet; ComponentLink2URL: http://www.analog.com/UploadedFiles/Data_Sheets/400769540REF01_g.pdf
footprint N-8_A (DIP, 8-Leads, Row Spacing 7.62mm, Pitch 2.54mm, Body 9.88x6.61mm)
3D model N-8A (DIP, 8-Pin, Row Spacing 7.62 mm, Pitch 2.54 mm)
simulation model REF01H (SUBCKT)
pins: 1 NC, 2 IN (power), 3 NC, 4 GND (power), 5 TRIM, 6 OUT (power), 7 NC, 8 NC

## REF01HZ
designator U?
+10V Precision Voltage Reference; Note: Pins 1, 3, 7 and 8 are not connected; Pin 4 is connected to case; Published: 8-Jun-2000; LatestRevisionDate: 29-May-2009; LatestRevisionNote: Component Body Added.; DatasheetVersion: REV. B 1992; PackageVersion: 1998; PackageReference: Q-8; Publisher: Altium Limited; PackageDescription: DIP, 8-Pin, Row Spacing 7.62 mm, Pitch 2.54 mm; ComponentLink1Description: Manufacturer Link; ComponentLink1URL: http://www.analog.com/en/prod/0%2C2877%2CREF01%2C00.html; ComponentLink2Description: Datasheet; ComponentLink2URL: http://www.analog.com/UploadedFiles/Data_Sheets/400769540REF01_g.pdf
footprint Q-8 (DIP, 8-Leads, Row Spacing 7.62mm, Pitch 2.54mm, Body 9.91x6.73mm)
3D model Q-8 (DIP, 8-Pin, Row Spacing 7.62 mm, Pitch 2.54 mm)
simulation model REF01H (SUBCKT)
pins: 1 NC, 2 IN (power), 3 NC, 4 GND (power), 5 TRIM, 6 OUT (power), 7 NC, 8 NC

## REF01J
designator U?
+10V Precision Voltage Reference; Note: Pins 1, 3, 7 and 8 are not connected; Pin 4 is connected to case; Published: 8-Jun-2000; LatestRevisionDate: 17-Jul-2002; LatestRevisionNote: Re-released for DXP Platform.; DatasheetVersion: REV. B 1992; PackageVersion: 1990; PackageReference: H-08A; Publisher: Altium Limited; PackageDescription: Can; 8 Leads; Pin Circle Dia. 5.08 mm; Lead Dia. 0.53 mm (max); ComponentLink1Description: Manufacturer Link; ComponentLink1URL: http://www.analog.com/en/prod/0%2C2877%2CREF01%2C00.html; ComponentLink2Description: Datasheet; ComponentLink2URL: http://www.analog.com/UploadedFiles/Data_Sheets/400769540REF01_g.pdf
footprint H-08A (Can; 8 Leads; Pin Circle Dia. 5.08 mm; Lead Dia. 0.53 mm (max))
simulation model REF01 (SUBCKT)
pins: 1 NC, 2 IN (power), 3 NC, 4 GND (power), 5 TRIM, 6 OUT (power), 7 NC, 8 NC

## REF01J/883
designator U?
+10V Precision Voltage Reference; Note: Pins 1, 3, 7 and 8 are not connected; Pin 4 is connected to case; Published: 8-Jun-2000; LatestRevisionDate: 17-Jul-2002; LatestRevisionNote: Re-released for DXP Platform.; DatasheetVersion: REV. B 1992; PackageVersion: 1990; PackageReference: H-08A; Publisher: Altium Limited; PackageDescription: Can; 8 Leads; Pin Circle Dia. 5.08 mm; Lead Dia. 0.53 mm (max); ComponentLink1Description: Manufacturer Link; ComponentLink1URL: http://www.analog.com/en/prod/0%2C2877%2CREF01%2C00.html; ComponentLink2Description: Datasheet; ComponentLink2URL: http://www.analog.com/UploadedFiles/Data_Sheets/400769540REF01_g.pdf
footprint H-08A (Can; 8 Leads; Pin Circle Dia. 5.08 mm; Lead Dia. 0.53 mm (max))
simulation model REF01 (SUBCKT)
pins: 1 NC, 2 IN (power), 3 NC, 4 GND (power), 5 TRIM, 6 OUT (power), 7 NC, 8 NC

## REF01RC/883
designator U?
+10V Precision Voltage Reference; Note: Pins 1, 2, 3, 4, 6, 7, 8, 9, 11, 13, 14, 16, 17, 18, 19 and 20 are not connected; Published: 8-Jun-2000; LatestRevisionDate: 29-May-2009; LatestRevisionNote: IPC-7351 Footprint Added.; DatasheetVersion: REV. B 1992; PackageReference: E-20A; Publisher: Altium Limited; PackageDescription: 20-Pin Ceramic Leadless Chip Carrier 1.27 mm Pitch; ComponentLink1Description: Manufacturer Link; ComponentLink1URL: http://www.analog.com/en/prod/0%2C2877%2CREF01%2C00.html; ComponentLink2Description: Datasheet; ComponentLink2URL: http://www.analog.com/UploadedFiles/Data_Sheets/400769540REF01_g.pdf
footprint E-20A_N (Leadless Chip Carrier, 20-Leads, Body 8.9x8.9mm, Pitch 1.27mm, IPC Medium Density)
footprint E-20A_L (Leadless Chip Carrier, 20-Leads, Body 8.9x8.9mm, Pitch 1.27mm, IPC High Density)
footprint E-20A_M (Leadless Chip Carrier, 20-Leads, Body 8.9x8.9mm, Pitch 1.27mm, IPC Low Density)
simulation model REF01 (SUBCKT)
pins: 1 NC, 2 NC, 3 NC, 4 NC, 5 IN (power), 6 NC, 7 NC, 8 NC, 9 NC, 10 GND (power), 11 NC, 12 TRIM, 13 NC, 14 NC, 15 OUT (power), 16 NC, 17 NC, 18 NC, 19 NC, 20 NC

## REF01Z
designator U?
+10V Precision Voltage Reference; Note: Pins 1, 3, 7 and 8 are not connected; Pin 4 is connected to case; Published: 8-Jun-2000; LatestRevisionDate: 29-May-2009; LatestRevisionNote: Component Body Added.; DatasheetVersion: REV. B 1992; PackageVersion: 1998; PackageReference: Q-8; Publisher: Altium Limited; PackageDescription: DIP, 8-Pin, Row Spacing 7.62 mm, Pitch 2.54 mm; ComponentLink1Description: Manufacturer Link; ComponentLink1URL: http://www.analog.com/en/prod/0%2C2877%2CREF01%2C00.html; ComponentLink2Description: Datasheet; ComponentLink2URL: http://www.analog.com/UploadedFiles/Data_Sheets/400769540REF01_g.pdf
footprint Q-8 (DIP, 8-Leads, Row Spacing 7.62mm, Pitch 2.54mm, Body 9.91x6.73mm)
3D model Q-8 (DIP, 8-Pin, Row Spacing 7.62 mm, Pitch 2.54 mm)
simulation model REF01 (SUBCKT)
pins: 1 NC, 2 IN (power), 3 NC, 4 GND (power), 5 TRIM, 6 OUT (power), 7 NC, 8 NC

## REF01Z/883
designator U?
+10V Precision Voltage Reference; Note: Pins 1, 3, 7 and 8 are not connected; Pin 4 is connected to case; Published: 8-Jun-2000; LatestRevisionDate: 29-May-2009; LatestRevisionNote: Component Body Added.; DatasheetVersion: REV. B 1992; PackageVersion: 1998; PackageReference: Q-8; Publisher: Altium Limited; PackageDescription: DIP, 8-Pin, Row Spacing 7.62 mm, Pitch 2.54 mm; ComponentLink1Description: Manufacturer Link; ComponentLink1URL: http://www.analog.com/en/prod/0%2C2877%2CREF01%2C00.html; ComponentLink2Description: Datasheet; ComponentLink2URL: http://www.analog.com/UploadedFiles/Data_Sheets/400769540REF01_g.pdf
footprint Q-8 (DIP, 8-Leads, Row Spacing 7.62mm, Pitch 2.54mm, Body 9.91x6.73mm)
3D model Q-8 (DIP, 8-Pin, Row Spacing 7.62 mm, Pitch 2.54 mm)
simulation model REF01 (SUBCKT)
pins: 1 NC, 2 IN (power), 3 NC, 4 GND (power), 5 TRIM, 6 OUT (power), 7 NC, 8 NC

## REF02AJ
designator U?
+5V Precision Voltage Reference/Temperature Transducer; Note: Pins 1, 7 and 8 are not connected; Pin 4 is connected to case; Published: 8-Jun-2000; LatestRevisionDate: 17-Jul-2002; LatestRevisionNote: Re-released for DXP Platform.; DatasheetVersion: REV. B 1992; PackageVersion: 1990; PackageReference: H-08A; Publisher: Altium Limited; PackageDescription: Can; 8 Leads; Pin Circle Dia. 5.08 mm; Lead Dia. 0.53 mm (max); ComponentLink1Description: Manufacturer Link; ComponentLink1URL: http://www.analog.com/en/prod/0%2C2877%2CREF02%2C00.html; ComponentLink2Description: Datasheet; ComponentLink2URL: http://www.analog.com/UploadedFiles/Data_Sheets/499818767ref02_h.pdf
footprint H-08A (Can; 8 Leads; Pin Circle Dia. 5.08 mm; Lead Dia. 0.53 mm (max))
simulation model REF02A (SUBCKT)
pins: 1 NC, 2 IN (power), 3 TEMP, 4 GND (power), 5 TRIM, 6 OUT (power), 7 NC, 8 NC

## REF02AJ/883
designator U?
+5V Precision Voltage Reference/Temperature Transducer; Note: Pins 1, 7 and 8 are not connected; Pin 4 is connected to case; Published: 8-Jun-2000; LatestRevisionDate: 17-Jul-2002; LatestRevisionNote: Re-released for DXP Platform.; DatasheetVersion: REV. B 1992; PackageVersion: 1990; PackageReference: H-08A; Publisher: Altium Limited; PackageDescription: Can; 8 Leads; Pin Circle Dia. 5.08 mm; Lead Dia. 0.53 mm (max); ComponentLink1Description: Manufacturer Link; ComponentLink1URL: http://www.analog.com/en/prod/0%2C2877%2CREF02%2C00.html; ComponentLink2Description: Datasheet; ComponentLink2URL: http://www.analog.com/UploadedFiles/Data_Sheets/499818767ref02_h.pdf
footprint H-08A (Can; 8 Leads; Pin Circle Dia. 5.08 mm; Lead Dia. 0.53 mm (max))
simulation model REF02A (SUBCKT)
pins: 1 NC, 2 IN (power), 3 TEMP, 4 GND (power), 5 TRIM, 6 OUT (power), 7 NC, 8 NC

## REF02AZ
designator U?
+5V Precision Voltage Reference/Temperature Transducer; Note: Pins 1, 7 and 8 are not connected; Pin 4 is connected to case; Published: 8-Jun-2000; LatestRevisionDate: 29-May-2009; LatestRevisionNote: Component Body Added.; DatasheetVersion: REV. B 1992; PackageVersion: 1998; PackageReference: Q-8; Publisher: Altium Limited; PackageDescription: DIP, 8-Pin, Row Spacing 7.62 mm, Pitch 2.54 mm; ComponentLink1Description: Manufacturer Link; ComponentLink1URL: http://www.analog.com/en/prod/0%2C2877%2CREF02%2C00.html; ComponentLink2Description: Datasheet; ComponentLink2URL: http://www.analog.com/UploadedFiles/Data_Sheets/499818767ref02_h.pdf
footprint Q-8 (DIP, 8-Leads, Row Spacing 7.62mm, Pitch 2.54mm, Body 9.91x6.73mm)
3D model Q-8 (DIP, 8-Pin, Row Spacing 7.62 mm, Pitch 2.54 mm)
simulation model REF02A (SUBCKT)
pins: 1 NC, 2 IN (power), 3 TEMP, 4 GND (power), 5 TRIM, 6 OUT (power), 7 NC, 8 NC

## REF02AZ/883
designator U?
+5V Precision Voltage Reference/Temperature Transducer; Note: Pins 1, 7 and 8 are not connected; Pin 4 is connected to case; Published: 8-Jun-2000; LatestRevisionDate: 29-May-2009; LatestRevisionNote: Component Body Added.; DatasheetVersion: REV. B 1992; PackageVersion: 1998; PackageReference: Q-8; Publisher: Altium Limited; PackageDescription: DIP, 8-Pin, Row Spacing 7.62 mm, Pitch 2.54 mm; ComponentLink1Description: Manufacturer Link; ComponentLink1URL: http://www.analog.com/en/prod/0%2C2877%2CREF02%2C00.html; ComponentLink2Description: Datasheet; ComponentLink2URL: http://www.analog.com/UploadedFiles/Data_Sheets/499818767ref02_h.pdf
footprint Q-8 (DIP, 8-Leads, Row Spacing 7.62mm, Pitch 2.54mm, Body 9.91x6.73mm)
3D model Q-8 (DIP, 8-Pin, Row Spacing 7.62 mm, Pitch 2.54 mm)
simulation model REF02A (SUBCKT)
pins: 1 NC, 2 IN (power), 3 TEMP, 4 GND (power), 5 TRIM, 6 OUT (power), 7 NC, 8 NC

## REF02CJ
designator U?
+5V Precision Voltage Reference/Temperature Transducer; Note: Pins 1, 7 and 8 are not connected; Pin 4 is connected to case; Published: 8-Jun-2000; LatestRevisionDate: 17-Jul-2002; LatestRevisionNote: Re-released for DXP Platform.; DatasheetVersion: REV. B 1992; PackageVersion: 1990; PackageReference: H-08A; Publisher: Altium Limited; PackageDescription: Can; 8 Leads; Pin Circle Dia. 5.08 mm; Lead Dia. 0.53 mm (max); ComponentLink1Description: Manufacturer Link; ComponentLink1URL: http://www.analog.com/en/prod/0%2C2877%2CREF02%2C00.html; ComponentLink2Description: Datasheet; ComponentLink2URL: http://www.analog.com/UploadedFiles/Data_Sheets/499818767ref02_h.pdf
footprint H-08A (Can; 8 Leads; Pin Circle Dia. 5.08 mm; Lead Dia. 0.53 mm (max))
simulation model REF02C (SUBCKT)
pins: 1 NC, 2 IN (power), 3 TEMP, 4 GND (power), 5 TRIM, 6 OUT (power), 7 NC, 8 NC

## REF02CP
designator U?
+5V Precision Voltage Reference/Temperature Transducer; Note: Pins 1, 7 and 8 are not connected; Pin 4 is connected to case; Published: 8-Jun-2000; LatestRevisionDate: 29-May-2009; LatestRevisionNote: Component Body Added.; DatasheetVersion: REV. B 1992; PackageReference: N-8_A; Publisher: Altium Limited; PackageDescription: DIP, 8-Pin, Row Spacing 7.62 mm, Pitch 2.54 mm; Code_JEDEC: MO-001-AN; ComponentLink1Description: Manufacturer Link; ComponentLink1URL: http://www.analog.com/en/prod/0%2C2877%2CREF02%2C00.html; ComponentLink2Description: Datasheet; ComponentLink2URL: http://www.analog.com/UploadedFiles/Data_Sheets/499818767ref02_h.pdf
footprint N-8_A (DIP, 8-Leads, Row Spacing 7.62mm, Pitch 2.54mm, Body 9.88x6.61mm)
3D model N-8A (DIP, 8-Pin, Row Spacing 7.62 mm, Pitch 2.54 mm)
simulation model REF02C (SUBCKT)
pins: 1 NC, 2 IN (power), 3 TEMP, 4 GND (power), 5 TRIM, 6 OUT (power), 7 NC, 8 NC

## REF02CS
designator U?
+5V Precision Voltage Reference/Temperature Transducer; Note: Pins 1, 7 and 8 are not connected; Pin 4 is connected to case; Published: 8-Jun-2000; LatestRevisionDate: 13-Apr-2006; LatestRevisionNote: IPC-7351 Footprint Added.; DatasheetVersion: REV. B 1992; PackageVersion: revA; PackageReference: SO-8; Publisher: Altium Limited; PackageDescription: 8-Pin Small Outline Integrated Circuit 1.27 mm Pitch; Code_JEDEC: MS-012-AA; Code_IPC: SOIC127P600-8; ComponentLink1Description: Manufacturer Link; ComponentLink1URL: http://www.analog.com/en/prod/0%2C2877%2CREF02%2C00.html; ComponentLink2Description: Datasheet; ComponentLink2URL: http://www.analog.com/UploadedFiles/Data_Sheets/499818767ref02_h.pdf
footprint SO-8_N (SOIC, 8-Leads, Body 4.9x3.9mm, Pitch 1.27mm, IPC Medium Density)
footprint SO-8_L (SOIC, 8-Leads, Body 4.9x3.9mm, Pitch 1.27mm, IPC High Density)
footprint SO-8_M (SOIC, 8-Leads, Body 4.9x3.9mm, Pitch 1.27mm, IPC Low Density)
3D model SO-8 (8-Pin Small Outline Integrated Circuit 1.27 mm Pitch)
simulation model REF02H (SUBCKT)
pins: 1 NC, 2 IN (power), 3 TEMP, 4 GND (power), 5 TRIM, 6 OUT (power), 7 NC, 8 NC

## REF02CZ
designator U?
+5V Precision Voltage Reference/Temperature Transducer; Note: Pins 1, 7 and 8 are not connected; Pin 4 is connected to case; Published: 8-Jun-2000; LatestRevisionDate: 29-May-2009; LatestRevisionNote: Component Body Added.; DatasheetVersion: REV. B 1992; PackageVersion: 1998; PackageReference: Q-8; Publisher: Altium Limited; PackageDescription: DIP, 8-Pin, Row Spacing 7.62 mm, Pitch 2.54 mm; ComponentLink1Description: Manufacturer Link; ComponentLink1URL: http://www.analog.com/en/prod/0%2C2877%2CREF02%2C00.html; ComponentLink2Description: Datasheet; ComponentLink2URL: http://www.analog.com/UploadedFiles/Data_Sheets/499818767ref02_h.pdf
footprint Q-8 (DIP, 8-Leads, Row Spacing 7.62mm, Pitch 2.54mm, Body 9.91x6.73mm)
3D model Q-8 (DIP, 8-Pin, Row Spacing 7.62 mm, Pitch 2.54 mm)
simulation model REF02C (SUBCKT)
pins: 1 NC, 2 IN (power), 3 TEMP, 4 GND (power), 5 TRIM, 6 OUT (power), 7 NC, 8 NC

## REF02DJ
designator U?
+5V Precision Voltage Reference/Temperature Transducer; Note: Pins 1, 7 and 8 are not connected; Pin 4 is connected to case; Published: 8-Jun-2000; LatestRevisionDate: 17-Jul-2002; LatestRevisionNote: Re-released for DXP Platform.; DatasheetVersion: REV. B 1992; PackageVersion: 1990; PackageReference: H-08A; Publisher: Altium Limited; PackageDescription: Can; 8 Leads; Pin Circle Dia. 5.08 mm; Lead Dia. 0.53 mm (max); ComponentLink1Description: Manufacturer Link; ComponentLink1URL: http://www.analog.com/en/prod/0%2C2877%2CREF02%2C00.html; ComponentLink2Description: Datasheet; ComponentLink2URL: http://www.analog.com/UploadedFiles/Data_Sheets/499818767ref02_h.pdf
footprint H-08A (Can; 8 Leads; Pin Circle Dia. 5.08 mm; Lead Dia. 0.53 mm (max))
simulation model REF02D (SUBCKT)
pins: 1 NC, 2 IN (power), 3 TEMP, 4 GND (power), 5 TRIM, 6 OUT (power), 7 NC, 8 NC

## REF02DP
designator U?
+5V Precision Voltage Reference/Temperature Transducer; Note: Pins 1, 7 and 8 are not connected; Pin 4 is connected to case; Published: 8-Jun-2000; LatestRevisionDate: 29-May-2009; LatestRevisionNote: Component Body Added.; DatasheetVersion: REV. B 1992; PackageReference: N-8_A; Publisher: Altium Limited; PackageDescription: DIP, 8-Pin, Row Spacing 7.62 mm, Pitch 2.54 mm; Code_JEDEC: MO-001-AN; ComponentLink1Description: Manufacturer Link; ComponentLink1URL: http://www.analog.com/en/prod/0%2C2877%2CREF02%2C00.html; ComponentLink2Description: Datasheet; ComponentLink2URL: http://www.analog.com/UploadedFiles/Data_Sheets/499818767ref02_h.pdf
footprint N-8_A (DIP, 8-Leads, Row Spacing 7.62mm, Pitch 2.54mm, Body 9.88x6.61mm)
3D model N-8A (DIP, 8-Pin, Row Spacing 7.62 mm, Pitch 2.54 mm)
simulation model REF02D (SUBCKT)
pins: 1 NC, 2 IN (power), 3 TEMP, 4 GND (power), 5 TRIM, 6 OUT (power), 7 NC, 8 NC

## REF02DZ
designator U?
+5V Precision Voltage Reference/Temperature Transducer; Note: Pins 1, 7 and 8 are not connected; Pin 4 is connected to case; Published: 8-Jun-2000; LatestRevisionDate: 29-May-2009; LatestRevisionNote: Component Body Added.; DatasheetVersion: REV. B 1992; PackageVersion: 1998; PackageReference: Q-8; Publisher: Altium Limited; PackageDescription: DIP, 8-Pin, Row Spacing 7.62 mm, Pitch 2.54 mm; ComponentLink1Description: Manufacturer Link; ComponentLink1URL: http://www.analog.com/en/prod/0%2C2877%2CREF02%2C00.html; ComponentLink2Description: Datasheet; ComponentLink2URL: http://www.analog.com/UploadedFiles/Data_Sheets/499818767ref02_h.pdf
footprint Q-8 (DIP, 8-Leads, Row Spacing 7.62mm, Pitch 2.54mm, Body 9.91x6.73mm)
3D model Q-8 (DIP, 8-Pin, Row Spacing 7.62 mm, Pitch 2.54 mm)
simulation model REF02D (SUBCKT)
pins: 1 NC, 2 IN (power), 3 TEMP, 4 GND (power), 5 TRIM, 6 OUT (power), 7 NC, 8 NC

## REF02EJ
designator U?
+5V Precision Voltage Reference/Temperature Transducer; Note: Pins 1, 7 and 8 are not connected; Pin 4 is connected to case; Published: 8-Jun-2000; LatestRevisionDate: 17-Jul-2002; LatestRevisionNote: Re-released for DXP Platform.; DatasheetVersion: REV. B 1992; PackageVersion: 1990; PackageReference: H-08A; Publisher: Altium Limited; PackageDescription: Can; 8 Leads; Pin Circle Dia. 5.08 mm; Lead Dia. 0.53 mm (max); ComponentLink1Description: Manufacturer Link; ComponentLink1URL: http://www.analog.com/en/prod/0%2C2877%2CREF02%2C00.html; ComponentLink2Description: Datasheet; ComponentLink2URL: http://www.analog.com/UploadedFiles/Data_Sheets/499818767ref02_h.pdf
footprint H-08A (Can; 8 Leads; Pin Circle Dia. 5.08 mm; Lead Dia. 0.53 mm (max))
simulation model REF02E (SUBCKT)
pins: 1 NC, 2 IN (power), 3 TEMP, 4 GND (power), 5 TRIM, 6 OUT (power), 7 NC, 8 NC

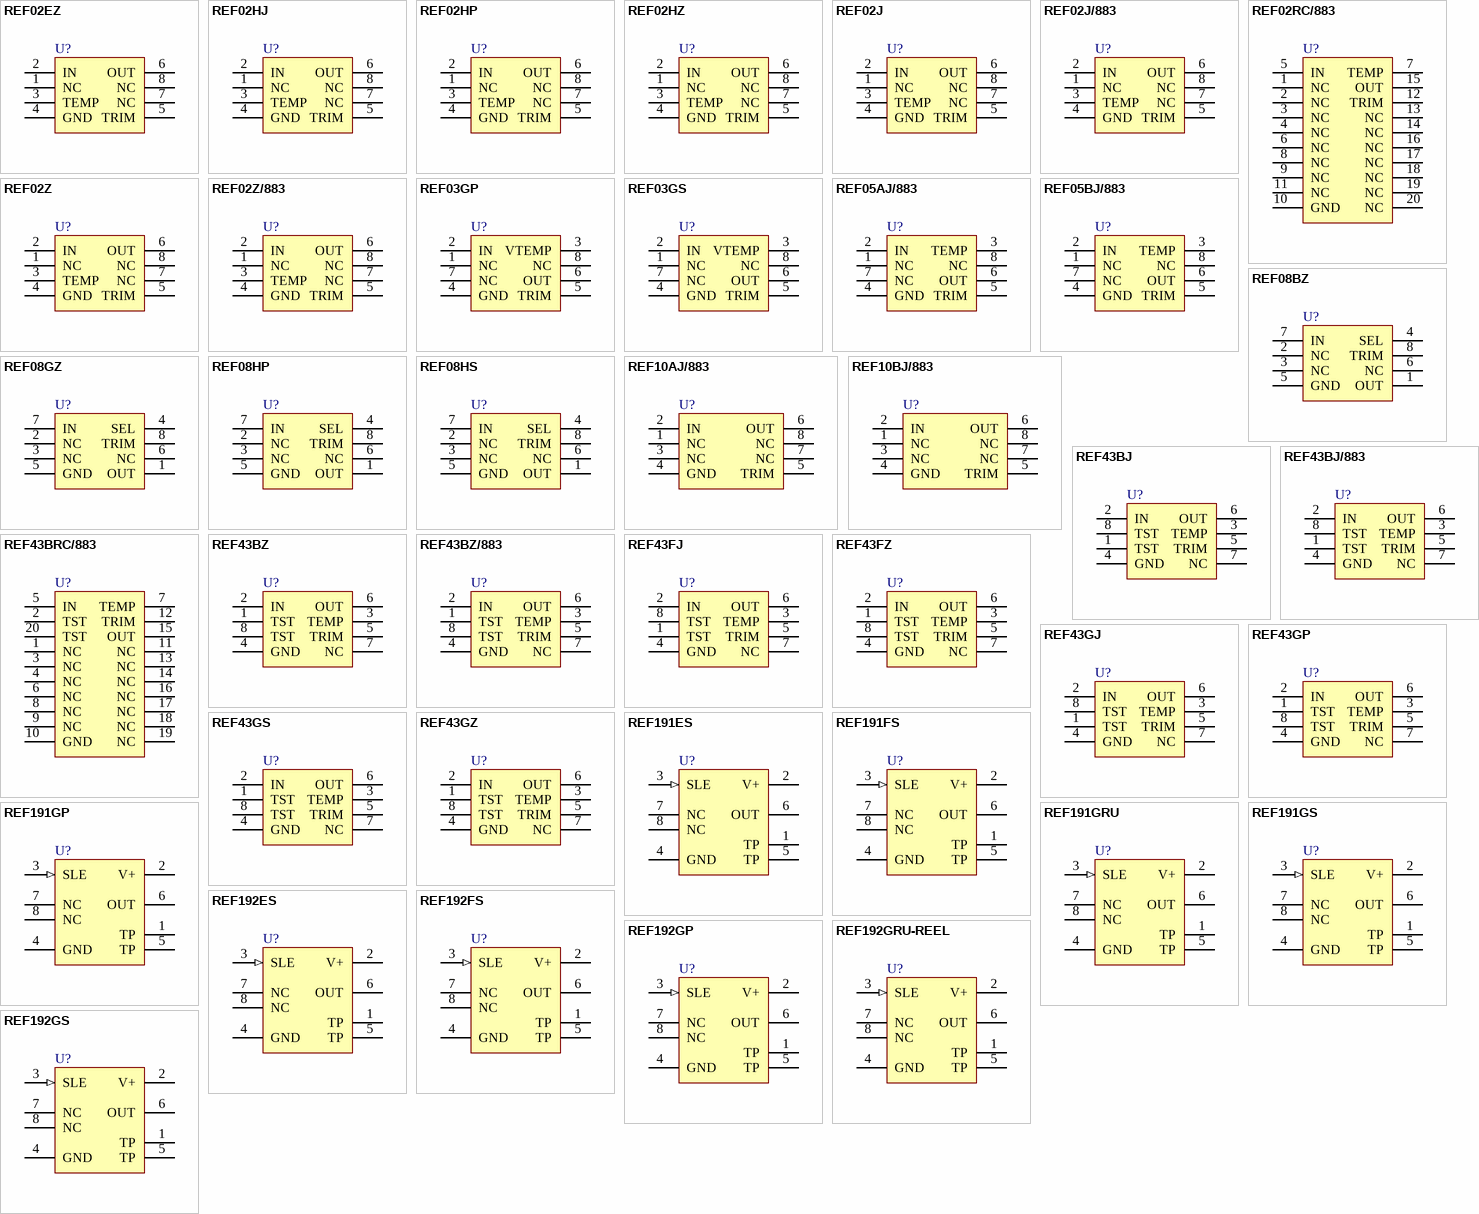
[diagram p4: symbols REF02EZ to REF192GS]

## REF02EZ
designator U?
+5V Precision Voltage Reference/Temperature Transducer; Note: Pins 1, 7 and 8 are not connected; Pin 4 is connected to case; Published: 8-Jun-2000; LatestRevisionDate: 29-May-2009; LatestRevisionNote: Component Body Added.; DatasheetVersion: REV. B 1992; PackageVersion: 1998; PackageReference: Q-8; Publisher: Altium Limited; PackageDescription: DIP, 8-Pin, Row Spacing 7.62 mm, Pitch 2.54 mm; ComponentLink1Description: Manufacturer Link; ComponentLink1URL: http://www.analog.com/en/prod/0%2C2877%2CREF02%2C00.html; ComponentLink2Description: Datasheet; ComponentLink2URL: http://www.analog.com/UploadedFiles/Data_Sheets/499818767ref02_h.pdf
footprint Q-8 (DIP, 8-Leads, Row Spacing 7.62mm, Pitch 2.54mm, Body 9.91x6.73mm)
3D model Q-8 (DIP, 8-Pin, Row Spacing 7.62 mm, Pitch 2.54 mm)
simulation model REF02E (SUBCKT)
pins: 1 NC, 2 IN (power), 3 TEMP, 4 GND (power), 5 TRIM, 6 OUT (power), 7 NC, 8 NC